# Altium footprint library PcbLib.PcbLib: 71 footprints (part 1 of 6)
Each footprint in its own frame and in the unit in brackets; x right, y up, seen from the top. Pads: shape width x height; smd on the part's side, far side on the other; paste and mask are expansions set on the pad; w line width, h text height; cw(c..) or ccw(c..) is an arc to the next point about the centre after c.
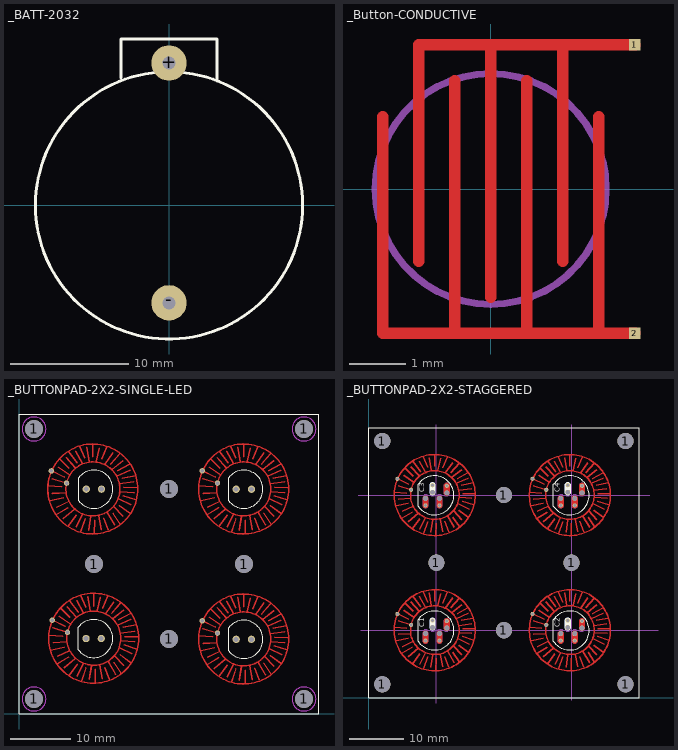
[diagram p0: the footprints below, top view; thin cyan lines are the x and y axes]

## _BATT-2032 [mm]
pads (2):
  round 3 hole 1.1: +(0,12.065) -(0,-8.255)
Top Overlay:
  circle w0.254: c0,0 r11.317
  lines w0.25: -4.064,10.795 -4.064,14.097 -0.127,14.097 4.064,14.097 4.064,10.541

## _Button-CONDUCTIVE [mil]
pads (2):
  rect 8x8 smd: 1(100,100) 2(100,-100)
Top Layer:
  lines w8: -75,50 -75,-100 100,-100 ; -50,-50 -50,100 100,100 ; -25,-100 -25,75 ; 0,-75 0,100 ; 25,-100 25,75 ; 50,-50 50,100 ; 75,-100 75,50
Top Solder:
  circle w78.74: c0,0 r39.37
Mechanical 16:
  circle w5: c0,0 r80

## _BUTTONPAD-2X2-SINGLE-LED [mil]
pads (24):
  round 118.11 hole 118.11: 1(98.43,98.43) 1(98.43,1870.08) 1(492.13,984.25) 1(984.25,492.13) 1(984.25,1476.38) 1(1476.38,984.25) 1(1870.08,98.43) 1(1870.08,1870.08)
  round 48 hole 32: A1(540,495) A2(1525,490) A3(541.34,1475.2) A4(1525,1475) K1(440,495) K2(1425,490) K3(441.34,1475.2) K4(1425,1475)
  round 35.43 hole 23.62: SIG1(218.19,615.75) SIG2(318.19,535.75) SIG3(1202.44,610.75) SIG4(1302.44,530.75) SIG5(212.13,1595) SIG6(312.13,1515) SIG7(1202.44,1595) SIG8(1302.44,1515)
Top Layer:
  circle w10: c1474.96,492.52 r177.17
  circle w10: c1474.57,492.13 r295.28
  circle w10: c490.71,497.52 r177.17
  circle w10: c490.32,497.13 r295.28
  circle w10: c1474.96,1476.77 r177.17
  circle w10: c1474.57,1476.38 r295.28
  circle w10: c484.65,1476.77 r177.17
  circle w10: c484.25,1476.38 r295.28
  lines w10: 189.76,1496.46 280.32,1490.94 ; 195.83,517.2 286.38,511.69 ; 202.36,1398.43 291.73,1418.5 ; 208.43,419.17 297.8,439.25 ; 214.96,1596.06 296.06,1555.12 ; 216.93,1544.88 308.66,1515.75 ; 218.11,1446.85 308.66,1452.36 ; 221.02,616.81 302.13,575.87 ; 222.99,565.63 314.72,536.5 ; 224.17,467.6 314.72,473.11 ; 245.28,1309.06 320.08,1353.15 ; 247.64,1357.48 326.38,1394.49 ; 251.34,329.8 326.14,373.9 ; 253.7,378.23 332.44,415.24 ; 257.09,1620.47 332.68,1570.08 ; 263.15,641.22 338.74,590.83 ; 267.72,1673.23 326.77,1614.17 ; 273.78,693.98 332.83,634.92 ; 290.55,1282.68 363.39,1343.7 ; 296.61,303.43 369.45,364.45 ; 309.45,1682.68 369.69,1616.14 ; 315.51,703.43 375.75,636.89 ; 323.23,1233.46 375.59,1304.33 ; 326.38,1720.47 382.28,1648.03 ; 329.29,254.21 381.65,325.08 ; 332.44,741.22 388.35,668.78 ; 372.05,1723.62 415.75,1645.67 ; 376.77,1227.95 415.75,1310.24 ; 378.11,744.37 421.81,666.42 ; 382.83,248.7 421.81,330.98 ; 399.21,1756.3 432.28,1680.32 ; 404.33,1197.64 433.46,1281.5 ; 405.28,777.05 438.35,701.06 ; 410.39,218.39 439.53,302.24 ; 445.28,1750 460.24,1656.3 ; 451.34,770.75 466.3,677.05 ; 456.3,1207.09 469.69,1296.46 ; 462.36,227.83 475.75,317.2 ; 484.25,1687.8 484.25,1770.08 ; 490.32,708.54 490.32,790.83 ; 492.91,1183.46 495.67,1271.26 ; 498.98,204.21 501.73,292.01 ; 507.48,1658.27 527.56,1743.7 ; 513.54,679.02 533.62,764.45 ; 523.23,1300.79 540.94,1210.24 ; 529.29,321.54 547.01,230.98 ; 543.31,1674.02 575.98,1753.15 ; 549.37,694.76 582.05,773.9 ; 557.09,1284.25 586.22,1208.27 ; 562.2,1637.4 615.75,1712.99 ; 563.15,305 592.28,229.02 ; 568.27,658.15 621.81,733.74 ; 579.13,1322.83 627.17,1240.55 ; 585.2,343.58 633.23,261.3 ; 601.18,1639.37 662.2,1709.06 ; 607.24,660.12 668.27,729.8 ; 609.45,1604.72 681.5,1661.42 ; 615.51,625.47 687.56,682.17 ; 616.93,1316.54 662.99,1248.03 ; 622.05,1360.63 681.5,1298.43 ; 622.99,337.28 669.06,268.78 ; 628.11,381.38 687.56,319.17 ; 640.94,1561.42 728.35,1600.39 ; 647.01,582.17 734.41,621.14 ; 647.24,1596.46 726.38,1638.58 ; 653.31,617.2 732.44,659.33 ; 653.54,1413.39 734.65,1373.23 ; 657.87,1510.24 752.36,1522.83 ; 659.06,1366.93 727.17,1316.54 ; 659.61,434.13 740.71,393.98 ; 663.94,530.98 758.43,543.58 ; 665.12,387.68 733.23,337.28 ; 665.35,1459.45 754.72,1453.15 ; 671.42,480.2 760.79,473.9 ; 676.77,1548.03 764.17,1564.57 ; 682.83,568.78 770.24,585.32 ; 683.07,1432.28 768.5,1404.72 ; 688.19,1487.01 774.8,1485.83 ; 689.13,453.03 774.57,425.47 ; 694.25,507.76 780.87,506.57 ; 1180.08,512.2 1270.63,506.69 ; 1180.08,1496.46 1270.63,1490.94 ; 1192.68,414.17 1282.05,434.25 ; 1192.68,1398.43 1282.05,1418.5 ; 1205.28,611.81 1286.38,570.87 ; 1205.28,1596.06 1286.38,1555.12 ; 1207.24,560.63 1298.98,531.5 ; 1207.24,1544.88 1298.98,1515.75 ; 1208.43,462.6 1298.98,468.11 ; 1208.43,1446.85 1298.98,1452.36 ; 1235.59,324.8 1310.39,368.9 ; 1235.59,1309.06 1310.39,1353.15 ; 1237.95,373.23 1316.69,410.24 ; 1237.95,1357.48 1316.69,1394.49 ; 1247.4,636.22 1322.99,585.83 ; 1247.4,1620.47 1322.99,1570.08 ; 1258.03,688.98 1317.09,629.92 ; 1258.03,1673.23 1317.09,1614.17 ; 1280.87,298.43 1353.7,359.45 ; 1280.87,1282.68 1353.7,1343.7 ; 1299.76,698.43 1360,631.89 ; 1299.76,1682.68 1360,1616.14 ; 1313.54,249.21 1365.91,320.08 ; 1313.54,1233.46 1365.91,1304.33 ; 1316.69,736.22 1372.6,663.78 ; 1316.69,1720.47 1372.6,1648.03 ; 1362.36,739.37 1406.06,661.42 ; 1362.36,1723.62 1406.06,1645.67 ; 1367.09,243.7 1406.06,325.98 ; 1367.09,1227.95 1406.06,1310.24 ; 1389.53,772.05 1422.6,696.06 ; 1389.53,1756.3 1422.6,1680.32 ; 1394.65,213.39 1423.78,297.24 ; 1394.65,1197.64 1423.78,1281.5 ; 1435.59,765.75 1450.55,672.05 ; 1435.59,1750 1450.55,1656.3 ; 1446.61,222.83 1460,312.2 ; 1446.61,1207.09 1460,1296.46 ; 1474.57,703.54 1474.57,785.83 ; 1474.57,1687.8 1474.57,1770.08 ; 1483.23,199.21 1485.98,287.01 ; 1483.23,1183.46 1485.98,1271.26 ; 1497.8,674.02 1517.87,759.45 ; 1497.8,1658.27 1517.87,1743.7 ; 1513.54,316.54 1531.26,225.98 ; 1513.54,1300.79 1531.26,1210.24 ; 1533.62,689.76 1566.3,768.9 ; 1533.62,1674.02 1566.3,1753.15 ; 1547.4,300 1576.54,224.02 ; 1547.4,1284.25 1576.54,1208.27 ; 1552.52,653.15 1606.06,728.74 ; 1552.52,1637.4 1606.06,1712.99 ; 1569.45,338.58 1617.48,256.3 ; 1569.45,1322.83 1617.48,1240.55 ; 1591.5,655.12 1652.52,724.8 ; 1591.5,1639.37 1652.52,1709.06 ; 1599.76,620.47 1671.81,677.17 ; 1599.76,1604.72 1671.81,1661.42 ; 1607.24,332.28 1653.31,263.78 ; 1607.24,1316.54 1653.31,1248.03 ; 1612.36,376.38 1671.81,314.17 ; 1612.36,1360.63 1671.81,1298.43 ; 1631.26,577.17 1718.66,616.14 ; 1631.26,1561.42 1718.66,1600.39 ; 1637.56,612.2 1716.69,654.33 ; 1637.56,1596.46 1716.69,1638.58 ; 1643.86,429.13 1724.96,388.98 ; 1643.86,1413.39 1724.96,1373.23 ; 1648.19,525.98 1742.68,538.58 ; 1648.19,1510.24 1742.68,1522.83 ; 1649.37,382.68 1717.48,332.28 ; 1649.37,1366.93 1717.48,1316.54 ; 1655.67,475.2 1745.04,468.9 ; 1655.67,1459.45 1745.04,1453.15 ; 1667.09,563.78 1754.49,580.32 ; 1667.09,1548.03 1754.49,1564.57 ; 1673.39,448.03 1758.82,420.47 ; 1673.39,1432.28 1758.82,1404.72 ; 1678.5,502.76 1765.12,501.57 ; 1678.5,1487.01 1765.12,1485.83
Top Overlay:
  lines w8: 0,0 1968.5,0 1968.5,1968.5 0,1968.5 0,0 ; 390,420 ccw(c490,495) 390,570 390,420 ; 391.34,1400.2 ccw(c491.34,1475.2) 391.34,1550.2 391.34,1400.2 ; 1375,415 ccw(c1475,490) 1375,565 1375,415 ; 1375,1400 ccw(c1475,1475) 1375,1550 1375,1400
Top Solder:
  drawing of 168 lines, arcs and shapes, not listed
Mechanical 8 keep-out:
  circle w5: c1870.08,98.43 r78.74
  circle w5: c98.43,98.43 r78.74
  circle w5: c98.43,1870.08 r78.74
  circle w5: c1870.08,1870.08 r78.74
Mechanical 9 keep-out:
  circle w5: c98.43,98.43 r78.74
  circle w5: c1870.08,98.43 r78.74
  circle w5: c1870.08,1870.08 r78.74
  circle w5: c98.43,1870.08 r78.74
Mechanical 16:
  text "D2" at 1445,545 h62
  text "D1" at 460,555 h62
  text "D4" at 1440,1535 h62
  text "D3" at 460,1535 h62

## _BUTTONPAD-2X2-STAGGERED [mil]
pads (48):
  round 118.11 hole 118.11: 1(98.43,98.43) 1(98.43,1870.08) 1(492.13,984.25) 1(984.25,492.13) 1(984.25,1476.38) 1(1476.38,984.25) 1(1870.08,98.43) 1(1870.08,1870.08)
  round 36 hole 36: 1(413,467) 1(413,1452) 1(464,512) 1(464,1497) 1(515,467) 1(515,1452) 1(568,508) 1(568,1493) 1(1398,467) 1(1398,1452) 1(1449,512) 1(1449,1497) 1(1500,467) 1(1500,1452) 1(1553,508) 1(1553,1493)
  round 30 hole 20: BLU1(515,416) BLU2(1500,416) BLU3(515,1401) BLU4(1500,1401) GND1(464,563) GND2(1449,563) GND3(464,1548) GND4(1449,1548) GRN1(568,559) GRN2(1553,559) GRN3(568,1544) GRN4(1553,1544) RED1(413,416) RED2(1398,416) RED3(413,1401) RED4(1398,1401) SIG1(208.19,610.75) SIG2(308.19,530.75) SIG3(1192.44,610.75) SIG4(1292.44,530.75) SIG5(208.19,1595) SIG6(308.19,1515) SIG7(1192.44,1595) SIG8(1292.44,1515)
Top Layer:
  circle w10: c480.32,1476.38 r295.28
  circle w10: c480.71,1476.77 r177.17
  circle w10: c1464.57,1476.38 r295.28
  circle w10: c1464.96,1476.77 r177.17
  circle w10: c480.32,492.13 r295.28
  circle w10: c480.71,492.52 r177.17
  circle w10: c1464.57,492.13 r295.28
  circle w10: c1464.96,492.52 r177.17
  lines w10: 185.83,512.2 276.38,506.69 ; 185.83,1496.46 276.38,1490.94 ; 198.43,414.17 287.8,434.25 ; 198.43,1398.43 287.8,1418.5 ; 211.02,611.81 292.13,570.87 ; 211.02,1596.06 292.13,1555.12 ; 212.99,560.63 304.72,531.5 ; 212.99,1544.88 304.72,1515.75 ; 214.17,462.6 304.72,468.11 ; 214.17,1446.85 304.72,1452.36 ; 241.34,324.8 316.14,368.9 ; 241.34,1309.06 316.14,1353.15 ; 243.7,373.23 322.44,410.24 ; 243.7,1357.48 322.44,1394.49 ; 253.15,636.22 328.74,585.83 ; 253.15,1620.47 328.74,1570.08 ; 263.78,688.98 322.83,629.92 ; 263.78,1673.23 322.83,1614.17 ; 286.61,298.43 359.45,359.45 ; 286.61,1282.68 359.45,1343.7 ; 305.51,698.43 365.75,631.89 ; 305.51,1682.68 365.75,1616.14 ; 319.29,249.21 371.65,320.08 ; 319.29,1233.46 371.65,1304.33 ; 322.44,736.22 378.35,663.78 ; 322.44,1720.47 378.35,1648.03 ; 368.11,739.37 411.81,661.42 ; 368.11,1723.62 411.81,1645.67 ; 372.83,243.7 411.81,325.98 ; 372.83,1227.95 411.81,1310.24 ; 395.28,772.05 428.35,696.06 ; 395.28,1756.3 428.35,1680.32 ; 400.39,213.39 429.53,297.24 ; 400.39,1197.64 429.53,1281.5 ; 441.34,765.75 456.3,672.05 ; 441.34,1750 456.3,1656.3 ; 452.36,222.83 465.75,312.2 ; 452.36,1207.09 465.75,1296.46 ; 480.32,703.54 480.32,785.83 ; 480.32,1687.8 480.32,1770.08 ; 488.98,199.21 491.73,287.01 ; 488.98,1183.46 491.73,1271.26 ; 503.54,674.02 523.62,759.45 ; 503.54,1658.27 523.62,1743.7 ; 519.29,316.54 537.01,225.98 ; 519.29,1300.79 537.01,1210.24 ; 539.37,689.76 572.05,768.9 ; 539.37,1674.02 572.05,1753.15 ; 553.15,300 582.28,224.02 ; 553.15,1284.25 582.28,1208.27 ; 558.27,653.15 611.81,728.74 ; 558.27,1637.4 611.81,1712.99 ; 575.2,338.58 623.23,256.3 ; 575.2,1322.83 623.23,1240.55 ; 597.24,655.12 658.27,724.8 ; 597.24,1639.37 658.27,1709.06 ; 605.51,620.47 677.56,677.17 ; 605.51,1604.72 677.56,1661.42 ; 612.99,332.28 659.06,263.78 ; 612.99,1316.54 659.06,1248.03 ; 618.11,376.38 677.56,314.17 ; 618.11,1360.63 677.56,1298.43 ; 637.01,577.17 724.41,616.14 ; 637.01,1561.42 724.41,1600.39 ; 643.31,612.2 722.44,654.33 ; 643.31,1596.46 722.44,1638.58 ; 649.61,429.13 730.71,388.98 ; 649.61,1413.39 730.71,1373.23 ; 653.94,525.98 748.43,538.58 ; 653.94,1510.24 748.43,1522.83 ; 655.12,382.68 723.23,332.28 ; 655.12,1366.93 723.23,1316.54 ; 661.42,475.2 750.79,468.9 ; 661.42,1459.45 750.79,1453.15 ; 672.83,563.78 760.24,580.32 ; 672.83,1548.03 760.24,1564.57 ; 679.13,448.03 764.57,420.47 ; 679.13,1432.28 764.57,1404.72 ; 684.25,502.76 770.87,501.57 ; 684.25,1487.01 770.87,1485.83 ; 1170.08,512.2 1260.63,506.69 ; 1170.08,1496.46 1260.63,1490.94 ; 1182.68,414.17 1272.05,434.25 ; 1182.68,1398.43 1272.05,1418.5 ; 1195.28,611.81 1276.38,570.87 ; 1195.28,1596.06 1276.38,1555.12 ; 1197.24,560.63 1288.98,531.5 ; 1197.24,1544.88 1288.98,1515.75 ; 1198.43,462.6 1288.98,468.11 ; 1198.43,1446.85 1288.98,1452.36 ; 1225.59,324.8 1300.39,368.9 ; 1225.59,1309.06 1300.39,1353.15 ; 1227.95,373.23 1306.69,410.24 ; 1227.95,1357.48 1306.69,1394.49 ; 1237.4,636.22 1312.99,585.83 ; 1237.4,1620.47 1312.99,1570.08 ; 1248.03,688.98 1307.09,629.92 ; 1248.03,1673.23 1307.09,1614.17 ; 1270.87,298.43 1343.7,359.45 ; 1270.87,1282.68 1343.7,1343.7 ; 1289.76,698.43 1350,631.89 ; 1289.76,1682.68 1350,1616.14 ; 1303.54,249.21 1355.91,320.08 ; 1303.54,1233.46 1355.91,1304.33 ; 1306.69,736.22 1362.6,663.78 ; 1306.69,1720.47 1362.6,1648.03 ; 1352.36,739.37 1396.06,661.42 ; 1352.36,1723.62 1396.06,1645.67 ; 1357.09,243.7 1396.06,325.98 ; 1357.09,1227.95 1396.06,1310.24 ; 1379.53,772.05 1412.6,696.06 ; 1379.53,1756.3 1412.6,1680.32 ; 1384.65,213.39 1413.78,297.24 ; 1384.65,1197.64 1413.78,1281.5 ; 1425.59,765.75 1440.55,672.05 ; 1425.59,1750 1440.55,1656.3 ; 1436.61,222.83 1450,312.2 ; 1436.61,1207.09 1450,1296.46 ; 1464.57,703.54 1464.57,785.83 ; 1464.57,1687.8 1464.57,1770.08 ; 1473.23,199.21 1475.98,287.01 ; 1473.23,1183.46 1475.98,1271.26 ; 1487.8,674.02 1507.87,759.45 ; 1487.8,1658.27 1507.87,1743.7 ; 1503.54,316.54 1521.26,225.98 ; 1503.54,1300.79 1521.26,1210.24 ; 1523.62,689.76 1556.3,768.9 ; 1523.62,1674.02 1556.3,1753.15 ; 1537.4,300 1566.54,224.02 ; 1537.4,1284.25 1566.54,1208.27 ; 1542.52,653.15 1596.06,728.74 ; 1542.52,1637.4 1596.06,1712.99 ; 1559.45,338.58 1607.48,256.3 ; 1559.45,1322.83 1607.48,1240.55 ; 1581.5,655.12 1642.52,724.8 ; 1581.5,1639.37 1642.52,1709.06 ; 1589.76,620.47 1661.81,677.17 ; 1589.76,1604.72 1661.81,1661.42 ; 1597.24,332.28 1643.31,263.78 ; 1597.24,1316.54 1643.31,1248.03 ; 1602.36,376.38 1661.81,314.17 ; 1602.36,1360.63 1661.81,1298.43 ; 1621.26,577.17 1708.66,616.14 ; 1621.26,1561.42 1708.66,1600.39 ; 1627.56,612.2 1706.69,654.33 ; 1627.56,1596.46 1706.69,1638.58 ; 1633.86,429.13 1714.96,388.98 ; 1633.86,1413.39 1714.96,1373.23 ; 1638.19,525.98 1732.68,538.58 ; 1638.19,1510.24 1732.68,1522.83 ; 1639.37,382.68 1707.48,332.28 ; 1639.37,1366.93 1707.48,1316.54 ; 1645.67,475.2 1735.04,468.9 ; 1645.67,1459.45 1735.04,1453.15 ; 1657.09,563.78 1744.49,580.32 ; 1657.09,1548.03 1744.49,1564.57 ; 1663.39,448.03 1748.82,420.47 ; 1663.39,1432.28 1748.82,1404.72 ; 1668.5,502.76 1755.12,501.57 ; 1668.5,1487.01 1755.12,1485.83
  lines w45: 413,416 413,467 ; 413,1401 413,1452 ; 515,416 515,467 ; 515,1401 515,1452 ; 568,508 568,559 ; 568,1493 568,1544 ; 1398,416 1398,467 ; 1398,1401 1398,1452 ; 1500,416 1500,467 ; 1500,1401 1500,1452 ; 1553,508 1553,559 ; 1553,1493 1553,1544
Bottom Layer:
  lines w44: 464,512 464,563 ; 464,1497 464,1548 ; 1449,512 1449,563 ; 1449,1497 1449,1548
  lines w45: 413,416 413,467 ; 413,1401 413,1452 ; 515,416 515,467 ; 515,1401 515,1452 ; 568,508 568,559 ; 568,1493 568,1544 ; 1398,416 1398,467 ; 1398,1401 1398,1452 ; 1500,416 1500,467 ; 1500,1401 1500,1452 ; 1553,508 1553,559 ; 1553,1493 1553,1544
Top Overlay:
  lines w8: 0,0 0,1968.5 1968.5,1968.5 1968.5,0 0,0 ; 360.08,411.26 ccw(c478.19,490) 360.08,568.74 360.08,411.26 ; 360.08,1396.26 ccw(c478.19,1475) 360.08,1553.74 360.08,1396.26 ; 1345.08,411.26 ccw(c1463.19,490) 1345.08,568.74 1345.08,411.26 ; 1345.08,1396.26 ccw(c1463.19,1475) 1345.08,1553.74 1345.08,1396.26
  lines w44: 464,512 464,563 ; 464,1497 464,1548 ; 1449,512 1449,563 ; 1449,1497 1449,1548
  text "C3" at 419.88,1497.6 h62
  text "C4" at 1404.88,1497.6 h62
  text "C1" at 419.88,512.6 h62
  text "C2" at 1404.88,512.6 h62
Top Solder:
  drawing of 168 lines, arcs and shapes, not listed
Bottom Solder:
  lines w45: 413,416 413,467 ; 413,1401 413,1452 ; 464,512 464,563 ; 464,1497 464,1548 ; 515,416 515,467 ; 515,1401 515,1452 ; 568,508 568,559 ; 568,1493 568,1544 ; 1398,416 1398,467 ; 1398,1401 1398,1452 ; 1449,512 1449,563 ; 1449,1497 1449,1548 ; 1500,416 1500,467 ; 1500,1401 1500,1452 ; 1553,508 1553,559 ; 1553,1493 1553,1544
Mechanical 16:
  rectangle: 501.7,1464.3 527.7,1485.3
  rectangle: 452.3,1464.3 478.3,1485.3
  rectangle: 403,1464.3 429,1485.3
  rectangle: 551,1464.3 577,1485.3
  rectangle: 1486.7,1464.3 1512.7,1485.3
  rectangle: 1437.3,1464.3 1463.3,1485.3
  rectangle: 1388,1464.3 1414,1485.3
  rectangle: 1536,1464.3 1562,1485.3
  rectangle: 501.7,479.3 527.7,500.3
  rectangle: 452.3,479.3 478.3,500.3
  rectangle: 403,479.3 429,500.3
  rectangle: 551,479.3 577,500.3
  rectangle: 1486.7,479.3 1512.7,500.3
  rectangle: 1437.3,479.3 1463.3,500.3
  rectangle: 1388,479.3 1414,500.3
  rectangle: 1536,479.3 1562,500.3
  lines w5: -78.74,1476.38 2047.24,1476.38 ; -59.06,492.13 2106.3,492.13 ; 492.13,-39.37 492.13,1988.19 ; 1476.38,-19.69 1476.38,1988.19